# Altium footprint library RPSLib_Capacitors.PcbLib: 28 footprints (part 1 of 2)
Each footprint in its own frame and in the unit in brackets; x right, y up, seen from the top. Pads: shape width x height; smd on the part's side, far side on the other; paste and mask are expansions set on the pad; w line width, h text height; cw(c..) or ccw(c..) is an arc to the next point about the centre after c.
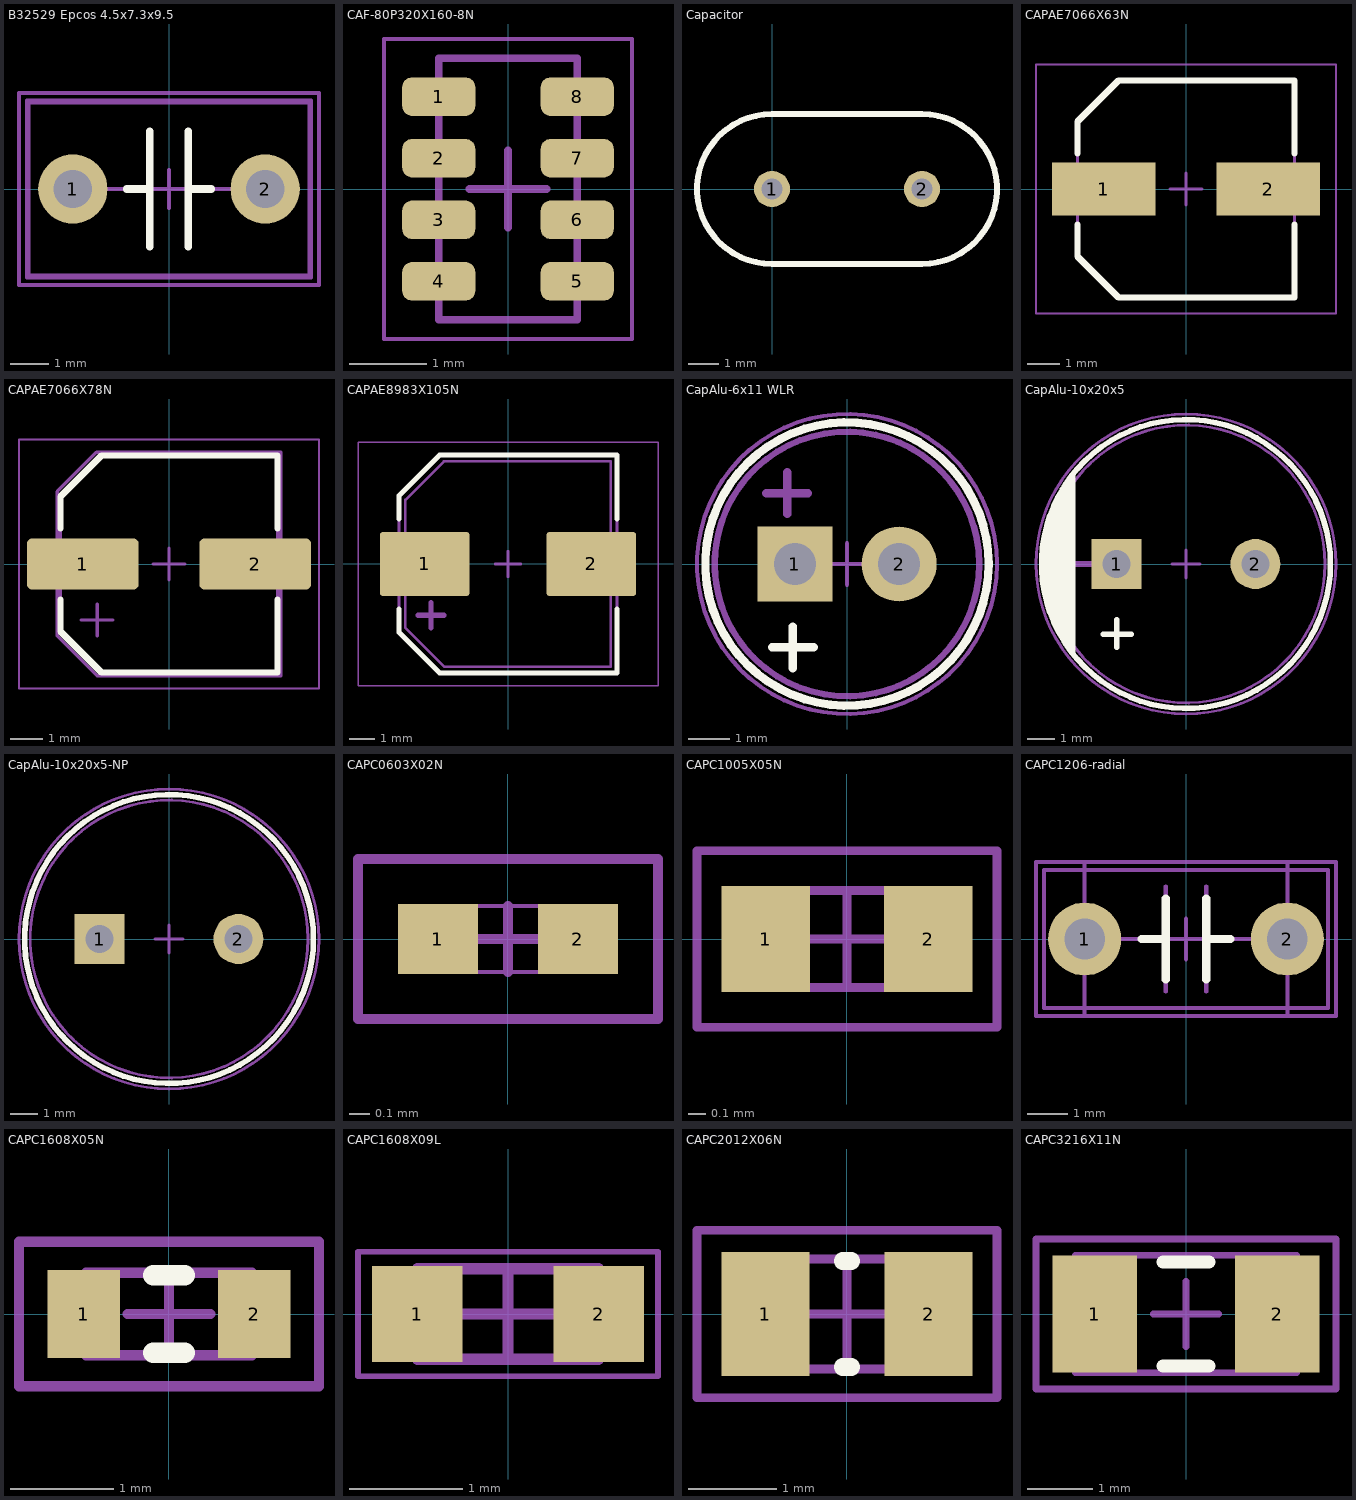
[diagram p0: the footprints below, top view; thin cyan lines are the x and y axes]

## B32529 Epcos 4.5x7.3x9.5 [mm] "Epcos Film capacitor, 2-Leads, Pin Spacing 5mm. 4.5x7.3, height 9.5"
height 9.5
pads (2):
  round 1.8 hole 1: 1(-2.5,0) 2(2.5,0)
Top Overlay:
  lines w0.2: -1.1,0 -0.5,0 ; -0.5,-1.5 -0.5,1.5 ; 0.5,-1.5 0.5,1.5 ; 0.5,0 1.1,0
Mechanical 1:
  lines w0.1: -3.7,-2.3 3.7,-2.3 3.7,2.3 -3.7,2.3 -3.7,-2.3
  text ".Designator" at -1.126,-0.113 h0.5
Mechanical 13:
  lines w0.1: -2.5,0 -0.5,0 ; -0.5,-1.3 -0.5,1.3 ; 0.5,-1.3 0.5,1.3 ; 0.5,0 2.5,0 ; -3.65,-2.25 3.65,-2.25 3.65,2.25 -3.65,2.25 -3.65,-2.25
Mechanical 15:
  lines w0.1: -0.5,0 0.5,0 ; 0,-0.5 0,0.5 ; -3.9,-2.5 3.9,-2.5 3.9,2.5 -3.9,2.5 -3.9,-2.5
3D body "TDK B32529.stp": height 9.5, standoff -4.7, extent -3.65,-2.25 3.65,2.25

## CAF-80P320X160-8N [mm] "Chip Array, Flat, 8-Leads, Pitch 0,80mm,  Body 3,20x1,60mm,  IPC Medium Density"
height 0.9
pads (8):
  rrect50% 0.95x0.5 smd mask+0.07: 1(-0.9,1.2) 2(-0.9,0.4) 3(-0.9,-0.4) 4(-0.9,-1.2) 5(0.9,-1.2) 6(0.9,-0.4) 7(0.9,0.4) 8(0.9,1.2)
Mechanical 13:
  lines w0.1: -0.9,-1.7 -0.9,1.7 0.9,1.7 0.9,-1.7 -0.9,-1.7
Mechanical 15:
  lines w0.05: -1.61,-1.95 -1.61,1.95 1.61,1.95 1.61,-1.95 -1.61,-1.95
  lines w0.1: -0.5,0 0.5,0 ; 0,-0.5 0,0.5
3D body "CAF-80P320X160-8N.step": height 0.9, standoff 0, extent -0.95,-1.7 0.95,1.7

## Capacitor [mm]
pads (2):
  round 1.2 hole 0.7: 1(0,0) 2(5,0)
Top Overlay:
  lines w0.2: 0,-2.5 cw(c0,0) 0,2.5 5,2.5 cw(c5,0) 5,-2.5 0,-2.5

## CAPAE7066X63N [mm] "Aluminum Electrolytic Capacitor, Body 6,60x6,60x6,30mm, IPC Medium Density"
height 6.3
pads (2):
  rect 3.25x1.65 smd: 1(-2.575,0) 2(2.575,0)
Top Overlay:
  lines w0.2: -3.4,-1.125 -3.4,-2.113 -2.113,-3.4 3.4,-3.4 3.4,-1.125 ; -3.4,1.125 -3.4,2.113 -2.113,3.4 3.4,3.4 3.4,1.125
Mechanical 13:
  lines w0.1: -3.4,-2.113 -3.4,2.113 -2.113,3.4 3.4,3.4 3.4,-3.4 -2.113,-3.4 -3.4,-2.113
Mechanical 15:
  lines w0.05: -4.7,-3.9 4.7,-3.9 4.7,3.9 -4.7,3.9 -4.7,-3.9
  lines w0.1: -0.5,0 0.5,0 ; 0,-0.5 0,0.5
3D body "CAPAE7066X63N.step": height 6.3, standoff 0, extent -3.5,-3.4 3.5,3.4

## CAPAE7066X78N [mm] "Aluminum Electrolytic Capacitor, Body 6,60x6,60x7,80mm, IPC Medium Density"
height 7.8
pads (2):
  rrect20% 3.5x1.6 smd mask+0.07: 1(-2.7,0) 2(2.7,0)
Top Overlay:
  lines w0.2: -3.4,-1.125 -3.4,-2.113 -2.113,-3.4 3.4,-3.4 3.4,-1.125 ; -3.4,1.125 -3.4,2.113 -2.113,3.4 3.4,3.4 3.4,1.125
Mechanical 1:
  lines w0.1: -2.75,-1.75 -1.75,-1.75 ; -2.25,-2.25 -2.25,-1.25 ; -2.25,-1.25 -2.25,-1.25 ; -3.5,-2.25 -3.5,2.275 -2.275,3.5 3.5,3.5 3.5,-3.5 -2.25,-3.5 -3.5,-2.25
  text ".Designator" at -1.126,-0.113 h0.5
Mechanical 13:
  lines w0.1: -3.4,-2.113 -2.113,-3.4 3.4,-3.4 3.4,3.4 -2.113,3.4 -3.4,2.113 -3.4,-2.113
Mechanical 15:
  lines w0.05: -4.7,-3.9 -4.7,3.9 4.7,3.9 4.7,-3.9 -4.7,-3.9
  lines w0.1: -0.5,0 0.5,0 ; 0,-0.5 0,0.5
3D body "CAPAE7066X78N.step": height 7.8, standoff 0, extent -3.5,-3.4 3.5,3.4

## CAPAE8983X105N [mm] "Aluminum Electrolytic Capacitor, Body 8,30x8,30x10,50mm, IPC Medium Density"
height 10.5
pads (2):
  rrect10% 3.5x2.5 smd mask+0.07: 1(-3.25,0) 2(3.25,0)
Top Overlay:
  lines w0.2: -4.25,-1.75 -4.25,-2.663 -2.663,-4.25 4.25,-4.25 4.25,-1.75 ; -4.25,1.75 -4.25,2.662 -2.663,4.25 4.25,4.25 4.25,1.75
Mechanical 1:
  lines w0.1: -4,-2.49 -4,2.5 -2.5,4 4,4 4,-4 -2.49,-4 -4,-2.49
  lines w0.2: -3.5,-2 -2.5,-2 ; -3,-2.5 -3,-1.5
  text ".Designator" at -1.126,-0.113 h0.5
Mechanical 13:
  lines w0.1: -4.25,-2.663 -4.25,2.662 -2.663,4.25 4.25,4.25 4.25,-4.25 -2.663,-4.25 -4.25,-2.663
Mechanical 15:
  lines w0.05: -5.85,-4.75 5.85,-4.75 5.85,4.75 -5.85,4.75 -5.85,-4.75
  lines w0.1: -0.5,0 0.5,0 ; 0,-0.5 0,0.5
3D body "CAPAE8983X105N.step": height 10.5, standoff 0, extent -4.45,-4.25 4.45,4.25

## CapAlu-6x11 WLR [mm] "WLR THD, 2-Leads, Dia 6mm, Body Length 11mm, Pin Spacing 5mm, Non Polarized"
height 20
pads (2):
  rect 1.8x1.8 hole 1: 1(-1.25,0)
  round 1.8 hole 1: 2(1.25,0)
Top Overlay:
  circle w0.2: c0,0 r3.4
  lines w0.2: -1.8,-2 -0.8,-2 ; -1.3,-2.5 -1.3,-1.5
Mechanical 1:
  circle w0.1: c0,0 r3.2
  lines w0.2: -1.938,1.7 -0.938,1.7 ; -1.438,1.2 -1.438,2.2
  text ".Designator" at -1.126,-0.113 h0.5
Mechanical 13:
  circle w0.1: c0,0 r3.15
Mechanical 15:
  circle w0.1: c0,0 r3.6
  lines w0.1: -0.5,0 0.5,0 ; 0,-0.5 0,0.5

## CapAlu-10x20x5 [mm] "THD, 2-Leads, Dia 10mm, Body Length 20mm, Pin Spacing 5mm, Polarized"
height 20
pads (2):
  rect 1.8x1.8 hole 1: 1(-2.5,0)
  round 1.8 hole 1: 2(2.5,0)
Top Overlay:
  circle w0.2: c0,0 r5.2
  lines w0.2: -5.122,0.9 -5.122,-0.9 -4.785,-0.9 ; -4.962,-1.507 -4.962,1.556 ; -4.785,-2.02 -4.785,2.035 ; -4.615,-2.39 -4.615,2.396 ; -4.453,-2.601 -4.453,2.685 ; -4.324,-2.885 -4.324,2.888 ; -4.197,-3 -4.197,3.002 ; -4.082,-3.212 -4.082,3.188 ; -2.973,-2.536 -1.973,-2.536 ; -2.5,-3 -2.5,-2
Mechanical 1:
  circle w0.1: c0,0 r5
  lines w0.2: -4.8,0 -3.4,0 ; -4.1,-0.7 -4.1,0.7
  text ".Designator" at -1.126,-0.113 h0.5
Mechanical 13:
  circle w0.1: c0,0 r5
Mechanical 15:
  circle w0.1: c0,0 r5.4
  lines w0.1: -0.5,0 0.5,0 ; 0,-0.5 0,0.5
3D body "Cap10x20.stp": height 20.1, standoff -4.9, extent -5.043,-5.014 4.954,4.981

## CapAlu-10x20x5-NP [mm] "THD, 2-Leads, Dia 10mm, Body Length 20mm, Pin Spacing 5mm, Non Polarized"
height 20
pads (2):
  rect 1.8x1.8 hole 1: 1(-2.5,0)
  round 1.8 hole 1: 2(2.5,0)
Top Overlay:
  circle w0.2: c0,0 r5.2
Mechanical 1:
  circle w0.1: c0,0 r5
  text ".Designator" at -1.126,-0.113 h0.5
Mechanical 13:
  circle w0.1: c0,0 r5
Mechanical 15:
  circle w0.1: c0,0 r5.4
  lines w0.1: -0.5,0 0.5,0 ; 0,-0.5 0,0.5
3D body "Cap10x20.stp": height 20.1, standoff -4.9, extent -5.043,-5.014 4.954,4.981

## CAPC0603X02N [mm] "Chip Capacitor, 2-Leads, Body 0.60x0.30mm, IPC Medium Density"
height 0.23
pads (2):
  rect 0.4x0.35 smd paste-1: 1(-0.35,0) 2(0.35,0)
Top Paste:
  region: 0.45,0.15 0.46,0.15 0.478,0.142 0.492,0.128 0.5,0.11 0.5,0.1 0.5,-0.1 0.5,-0.11 0.492,-0.128 0.478,-0.142 0.46,-0.15 0.45,-0.15 0.225,-0.15 0.215,-0.15 0.197,-0.142 0.183,-0.128 0.175,-0.11 0.175,-0.1 0.175,0.1 0.175,0.11 0.183,0.128 0.197,0.142 0.215,0.15 0.225,0.15
  region: -0.45,-0.15 -0.46,-0.15 -0.478,-0.142 -0.492,-0.128 -0.5,-0.11 -0.5,-0.1 -0.5,0.1 -0.5,0.11 -0.492,0.128 -0.478,0.142 -0.46,0.15 -0.45,0.15 -0.225,0.15 -0.215,0.15 -0.197,0.142 -0.183,0.128 -0.175,0.11 -0.175,0.1 -0.175,-0.1 -0.175,-0.11 -0.183,-0.128 -0.197,-0.142 -0.215,-0.15 -0.225,-0.15
Mechanical 13:
  lines w0.02: -0.315,-0.165 -0.315,0.165 0.315,0.165 0.315,-0.165 -0.315,-0.165
Mechanical 15:
  lines w0.05: -0.165,0 0.165,0 ; 0,-0.165 0,0.165 ; -0.75,-0.4 -0.75,0.4 0.75,0.4 0.75,-0.4 -0.75,-0.4
3D body "CAPC0603X02N.step": height 0.23, standoff 0, extent -0.315,-0.165 0.315,0.165

## CAPC1005X05N [mm] "Chip Capacitor, 2-Leads, Body 1.00x0.50mm, IPC Medium Density"
height 0.45
pads (2):
  rect 0.5x0.6 smd paste-0.03 mask+0.07: 1(-0.46,0) 2(0.46,0)
Mechanical 1:
  lines w0.05: -0.85,-0.5 -0.85,0.5 0.85,0.5 0.85,-0.5 -0.85,-0.5
  text ".Designator" at -1.126,-0.113 h0.5
Mechanical 13:
  lines w0.05: -0.525,-0.275 -0.525,0.275 0.525,0.275 0.525,-0.275 -0.525,-0.275
Mechanical 15:
  lines w0.05: -0.275,0 0.275,0 ; 0,-0.275 0,0.275 ; -0.85,-0.5 0.85,-0.5 0.85,0.5 -0.85,0.5 -0.85,-0.5
3D body "CAPC1005X05N.step": height 0.45, standoff 0, extent -0.525,-0.275 0.525,0.275

## CAPC1206-radial [mm] "THD, 2-Leads, Pin Spacing 5mm"
height 6
pads (2):
  round 1.8 hole 1: 1(-2.5,0) 2(2.5,0)
Top Overlay:
  lines w0.2: -1.1,0 -0.5,0 ; -0.5,-1 -0.5,1 ; 0.5,-1 0.5,1 ; 0.5,0 1.1,0
Mechanical 1:
  lines w0.1: -3.5,-1.7 3.5,-1.7 3.5,1.7 -3.5,1.7 -3.5,-1.7
  text ".Designator" at -1.126,-0.113 h0.5
Mechanical 13:
  lines w0.1: -2.5,0 -0.5,0 ; -0.5,-1.3 -0.5,1.3 ; 0.5,-1.3 0.5,1.3 ; 0.5,0 2.5,0 ; -2.5,-1.9 -2.5,1.9 2.5,1.9 2.5,-1.9 -2.5,-1.9
Mechanical 15:
  lines w0.1: -0.5,0 0.5,0 ; 0,-0.5 0,0.5 ; -3.7,-1.9 3.7,-1.9 3.7,1.9 -3.7,1.9 -3.7,-1.9

## CAPC1608X05N [mm] "Chip Capacitor, 2-Leads, Body 1.60x0.80mm, IPC Medium Density"
height 0.5
pads (2):
  rect 0.7x0.85 smd paste-0.05: 1(-0.825,0) 2(0.825,0)
Top Overlay:
  lines w0.2: -0.15,-0.375 0.15,-0.375 ; -0.15,0.375 0.15,0.375
Mechanical 1:
  lines w0.1: -1.45,-0.7 1.45,-0.7 1.45,0.7 -1.45,0.7 -1.45,-0.7
  text ".Designator" at -2.253,-0.226 h1
Mechanical 13:
  lines w0.1: -0.8,-0.4 -0.8,0.4 0.8,0.4 0.8,-0.4 -0.8,-0.4
Mechanical 15:
  lines w0.05: -1.45,-0.7 1.45,-0.7 1.45,0.7 -1.45,0.7 -1.45,-0.7
  lines w0.1: -0.4,0 0.4,0 ; 0,-0.4 0,0.4
3D body "CAPC1608X05N.step": height 0.5, standoff 0, extent -0.8,-0.4 0.8,0.4

## CAPC1608X09L [mm] "Chip Capacitor, 2-Leads, Body 1.60x0.80mm, IPC High Density"
height 0.9
pads (2):
  rect 0.8x0.85 smd paste-0.05 mask+0.07: 1(-0.8,0) 2(0.8,0)
Mechanical 13:
  lines w0.1: -0.8,-0.4 0.8,-0.4 0.8,0.4 -0.8,0.4 -0.8,-0.4
Mechanical 15:
  lines w0.05: -1.325,-0.55 1.325,-0.55 1.325,0.55 -1.325,0.55 -1.325,-0.55
  lines w0.1: -0.4,0 0.4,0 ; 0,-0.4 0,0.4
3D body "CAPC1608X09L.step": height 0.9, standoff 0, extent -0.8,-0.4 0.8,0.4

## CAPC2012X06N [mm] "Chip Capacitor, 2-Leads, Body 2.00x1.25mm, IPC Medium Density"
height 0.6
pads (2):
  rect 1x1.4 smd: 1(-0.925,0) 2(0.925,0)
Top Overlay:
  lines w0.2: -0.05,-0.6 0.05,-0.6 ; -0.05,0.6 0.05,0.6
Mechanical 1:
  lines w0.1: -1.7,-0.95 1.7,-0.95 1.7,0.95 -1.7,0.95 -1.7,-0.95
  text ".Designator" at -1.126,-0.113 h0.5
Mechanical 13:
  lines w0.1: -1,-0.625 -1,0.625 1,0.625 1,-0.625 -1,-0.625
Mechanical 15:
  lines w0.05: -1.7,-0.95 -1.7,0.95 1.7,0.95 1.7,-0.95 -1.7,-0.95
  lines w0.1: -0.5,0 0.5,0 ; 0,-0.5 0,0.5
3D body "CAPC2012X06N.step": height 0.6, standoff 0, extent -1,-0.625 1,0.625

## CAPC3216X11N [mm] "Chip Capacitor, 2-Leads, Body 3,20x1,60mm, IPC Medium Density"
height 1.1
pads (2):
  rect 1.3x1.8 smd: 1(-1.4,0) 2(1.4,0)
Top Overlay:
  lines w0.2: -0.35,-0.8 0.35,-0.8 ; -0.35,0.8 0.35,0.8
Mechanical 1:
  lines w0.1: -2.3,-1.15 2.3,-1.15 2.3,1.15 -2.3,1.15 -2.3,-1.15
  text ".Designator" at -1.126,-0.113 h0.5
Mechanical 13:
  lines w0.1: -1.7,-0.9 -1.7,0.9 1.7,0.9 1.7,-0.9 -1.7,-0.9
Mechanical 15:
  lines w0.05: -2.3,-1.15 -2.3,1.15 2.3,1.15 2.3,-1.15 -2.3,-1.15
  lines w0.1: -0.5,0 0.5,0 ; 0,-0.5 0,0.5
3D body "CAPC3216X11N.step": height 1.1, standoff 0, extent -1.7,-0.9 1.7,0.9